# EAGLE library part FPC-09WAY (library pimoroni-fpc)
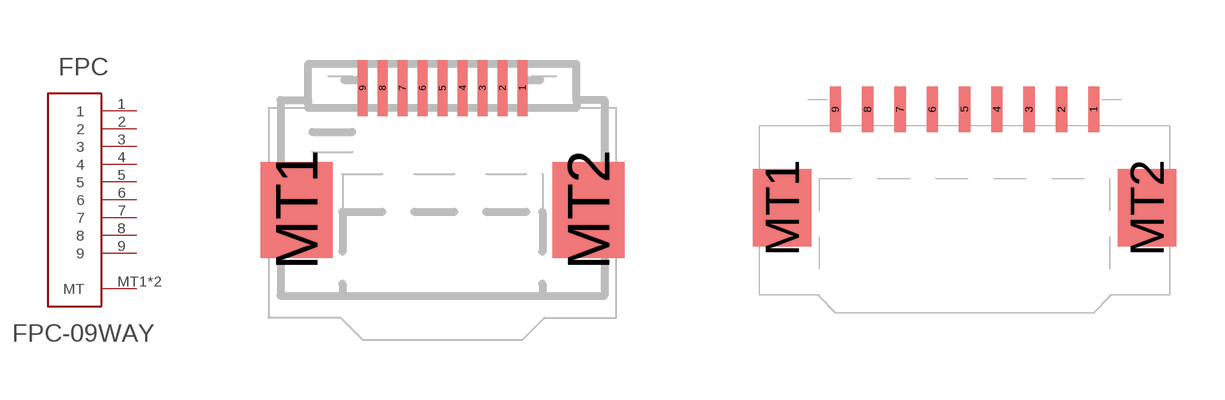
[diagram p4: symbol with the pads of FPC-0.5MM-09WAY; footprints FPC-0.5MM-09WAY, FPC-1.0MM-09WAY]

Designator prefix FPC

## FPC-09WAY0.5  [FPC-0.5MM-09WAY]
1  1
2  2
3  3
4  4
5  5
6  6
7  7
8  8
9  9
MT1  MT
MT2  MT

## FPC-09WAY1.0  [FPC-1.0MM-09WAY]
Pads as for FPC-0.5MM-09WAY

## Footprint FPC-0.5MM-09WAY (pad centres in mm)
smd 0.25 x 1.4: 1 2,0.7; 2 1.5,0.7; 3 1,0.7; 4 0.5,0.7; 5 0,0.7; 6 -0.5,0.7; 7 -1,0.7; 8 -1.5,0.7; 9 -2,0.7
smd 1.8 x 2.4: MT1 -3.65,-2.35; MT2 3.65,-2.35

## Footprint FPC-1.0MM-09WAY (pad centres in mm)
smd 0.35 x 1.4: 1 4,0.7; 2 3,0.7; 3 2,0.7; 4 1,0.7; 5 0,0.7; 6 -1,0.7; 7 -2,0.7; 8 -3,0.7; 9 -4,0.7
smd 1.8 x 2.4: MT1 -5.65,-2.35; MT2 5.65,-2.35